# Altium footprint library XTAL.PcbLib: 34 footprints (part 1 of 3)
Each footprint in its own frame and in the unit in brackets; x right, y up, seen from the top. Pads: shape width x height; smd on the part's side, far side on the other; paste and mask are expansions set on the pad; w line width, h text height; cw(c..) or ccw(c..) is an arc to the next point about the centre after c.
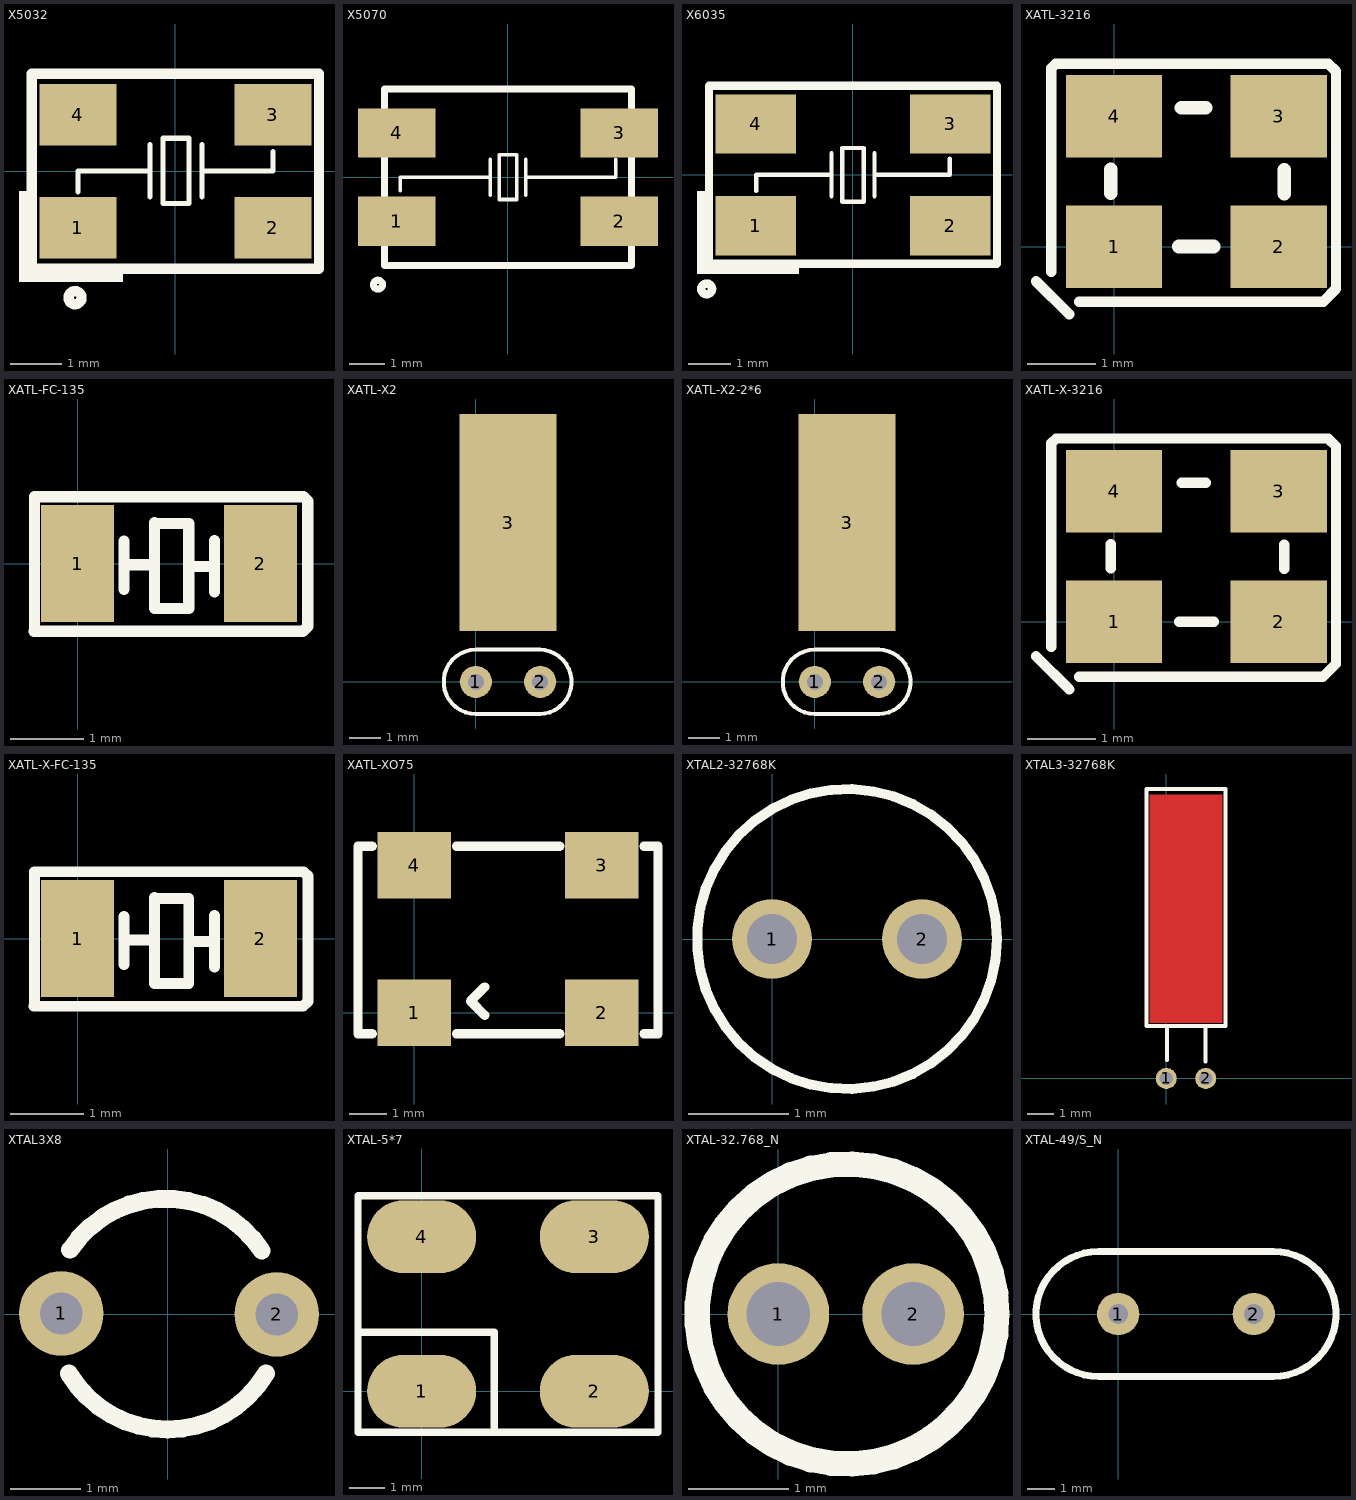
[diagram p0: the footprints below, top view; thin cyan lines are the x and y axes]

## X5032 [mm]
pads (4):
  rect 1.5x1.2 smd: 1(-1.9,-1.1) 2(1.9,-1.1) 3(1.9,1.1) 4(-1.9,1.1)
Top Overlay:
  circle w0.2: c-1.956,-2.464 r0.127
  rectangle: -3.048,-2.159 -2.87,-0.381
  rectangle: -3.023,-2.159 -1.016,-1.905
  lines w0.1: -1.897,-0.406 -1.897,0.008 -0.496,0.008 ; -0.496,-0.5 -0.496,0.516 ; 0.52,-0.5 0.52,0.516 ; 0.52,0.008 1.902,0.008 1.905,0.016 1.905,0.381 ; -0.242,-0.627 0.266,-0.627 0.266,-0.309 0.266,0.326 0.266,0.643 -0.242,0.643 -0.242,-0.627
  lines w0.2: -2.8,-1.9 -2.8,1.9 2.8,1.9 2.8,-1.9 -2.8,-1.9
3D body "User Library-CRYSTALSMD5X32.STEP": height 1, standoff 0, extent -2.5,-1.6 2.5,1.6

## X5070 [mm]
pads (4):
  rect 2.2x1.4 smd: 1(-3.15,-1.25) 2(3.15,-1.25) 3(3.15,1.25) 4(-3.15,1.25)
Top Overlay:
  circle w0.2: c-3.683,-3.048 r0.127
  lines w0.1: -3.048,-0.381 -3.048,0 -0.508,0 ; -0.508,-0.508 -0.508,0.508 ; 0.508,-0.508 0.508,0.508 ; 0.508,0 3.048,0 3.048,0.508 ; -0.254,-0.635 -0.254,0.635 0.254,0.635 0.254,-0.635 -0.254,-0.635
  lines w0.2: -3.5,-2.5 3.5,-2.5 3.5,2.5 -3.5,2.5 -3.5,-2.5
3D body "User Library-GeyerElectronics_KX13.STEP": height 1.31, standoff 0, extent -3.576,-2.54 3.424,2.46

## X6035 [mm]
pads (4):
  rect 1.9x1.4 smd: 1(-2.3,-1.2) 2(2.3,-1.2) 3(2.3,1.2) 4(-2.3,1.2)
Top Overlay:
  circle w0.2: c-3.454,-2.692 r0.127
  rectangle: -3.683,-2.337 -3.48,-0.381
  rectangle: -3.658,-2.337 -1.27,-2.108
  lines w0.1: -2.286,-0.381 -2.286,0 -2.032,0 -0.508,0 ; -0.508,-0.508 -0.508,0.508 ; 0.508,-0.508 0.508,0.508 ; 0.508,0 2.286,0 2.286,0.381 ; -0.254,-0.635 0.254,-0.635 0.254,0.635 -0.254,0.635 -0.254,-0.635
  lines w0.2: -3.4,-2.1 -3.4,2.1 3.4,2.1 3.4,-2.1 -3.4,-2.1
3D body "User Library-CRYSTALSMD5X32.STEP": height 1, standoff 0, extent -2.5,-1.6 2.5,1.6

## XATL-3216 [mm]
pads (4):
  rect 1.4x1.2 smd: 1(0,0) 2(2.4,0) 3(2.4,1.9) 4(0,1.9)
Top Overlay:
  lines w0.152: -1.138,-0.503 -0.653,-0.988 ; -0.915,-0.365 -0.915,2.599 -0.847,2.667 3.123,2.667 3.234,2.556 3.234,-0.614 3.045,-0.803 -0.511,-0.803
  lines w0.2: -0.047,0.777 -0.047,1.127 ; 0.945,0 1.453,0 ; 0.984,2.023 1.334,2.023 ; 2.478,0.771 2.478,1.121

## XATL-FC-135 [mm]
pads (2):
  rect 1x1.6 smd: 1(0,0) 2(2.5,0)
Top Overlay:
  lines w0.152: 0.634,-0.351 0.634,0.305 ; 0.634,-0.016 1.041,-0.016 ; 1.541,-0.037 1.874,-0.037 ; 1.874,-0.388 1.874,0.316 ; -0.596,-0.924 3.082,-0.924 3.147,-0.859 3.147,0.856 3.089,0.914 -0.588,0.914 -0.588,-0.916 -0.596,-0.924 ; 1.052,-0.611 1.052,0.561 1.065,0.548 1.52,0.548 1.52,-0.611 1.052,-0.611

## XATL-X2 [mil]
pads (3):
  round 40 hole 20: 1(0,0) 2(80,0)
  rect 120x270 smd: 3(40,198)
Top Overlay:
  lines w5: 79,-40 ccw(c79,0) 79,40 ; 80,-40 0,-40 cw(c0,0) 0,40 80,40

## XATL-X2-2*6 [mil]
pads (3):
  round 40 hole 20: 1(0,0) 2(80,0)
  rect 120x270 smd: 3(40,198)
Top Overlay:
  lines w5: 79,-40 ccw(c79,0) 79,40 ; 80,-40 0,-40 cw(c0,0) 0,40 80,40

## XATL-X-3216 [mm]
pads (4):
  rect 1.4x1.2 smd: 1(0,0) 2(2.4,0) 3(2.4,1.9) 4(0,1.9)
Top Overlay:
  lines w0.15: -1.138,-0.503 -0.653,-0.988 ; -0.915,-0.365 -0.915,2.599 -0.847,2.667 3.123,2.667 3.234,2.556 3.234,-0.614 3.045,-0.803 -0.511,-0.803 ; -0.047,0.777 -0.047,1.127 ; 0.945,0 1.453,0 ; 0.984,2.023 1.334,2.023 ; 2.478,0.771 2.478,1.121

## XATL-X-FC-135 [mm]
pads (2):
  rect 1x1.6 smd: 1(0,0) 2(2.5,0)
Top Overlay:
  lines w0.15: 0.634,-0.351 0.634,0.305 ; 0.634,-0.016 1.041,-0.016 ; 1.541,-0.037 1.874,-0.037 ; 1.874,-0.388 1.874,0.316 ; -0.596,-0.924 3.082,-0.924 3.147,-0.859 3.147,0.856 3.089,0.914 -0.588,0.914 -0.588,-0.916 -0.596,-0.924 ; 1.052,-0.611 1.052,0.561 1.065,0.548 1.52,0.548 1.52,-0.611 1.052,-0.611

## XATL-XO75 [mm]
pads (4):
  rect 2x1.8 smd: 1(0,0) 2(5.08,0) 3(5.08,4) 4(0,4)
Top Overlay:
  lines w0.254: -1.143,-0.572 -1.524,-0.572 -1.524,4.508 -1.143,4.508 ; 1.143,-0.572 3.937,-0.572 ; 1.143,4.508 3.937,4.508 ; 1.905,-0.064 1.524,0.317 1.905,0.698 ; 6.223,-0.572 6.604,-0.572 6.604,4.508 6.223,4.508

## XTAL2-32768K [mm]
pads (2):
  round 0.8 hole 0.5: 1(0,0) 2(1.5,0)
Top Overlay:
  circle w0.1: c0.75,0 r1.5

## XTAL3-32768K [mm]
pads (2):
  round 0.8 hole 0.5: 1(0,0) 2(1.5,0)
Top Layer:
  rectangle: -0.632,2.109 2.144,10.8
Top Overlay:
  lines w0.15: -0.75,11 2.25,11
  lines w0.152: -0.75,11 -0.75,2 2.25,2 2.25,11 ; 0.021,0.703 0.021,1.986 ; 1.484,0.653 1.484,2
Top Solder:
  rectangle: -0.633,2.105 2.147,10.8

## XTAL3X8 [mm]
pads (2):
  round 1.2 hole 0.6: 1(-1.509,0.013) 2(1.55,0)
Top Overlay:
  lines w0.254: -1.4,-0.841 ccw(c-0.002,-0.002) 1.398,-0.839 ; -1.386,0.917 cw(c-0.029,0.013) 1.337,0.903
3D body "User Library-Crystal TH_.STEP": height 9.28, standoff -1.5, extent -1.707,-1.586 1.743,1.614

## XTAL-5*7 [mil]
pads (4):
  oval 120x80 smd: 1(0,0) 2(190,0) 3(190,170) 4(0,170)
Top Overlay:
  lines w8: -70,65 80,65 80,-45 ; -70,-45 260,-45 260,215 -70,215 -70,-45

## XTAL-32.768_N [mil]
pads (2):
  round 40 hole 25: 1(0,0) 2(53,0)
Top Overlay:
  circle w10: c27,0 r59

## XTAL-49/S_N [mil] "短型晶振（未加焊）"
pads (2):
  round 60 hole 28: 1(0,0) 2(192,0)
Top Overlay:
  lines w10: -28,-88.5 cw(c-28,0) -28,88.5 220,88.5 cw(c220,0) 220,-88.5 -28,-88.5
3D body "hc-49s_n.stp": height 137.8, standoff -118.11, extent -116.14,-89.37 309.06,87.8